# Altium integrated library Diode - Rectifier.IntLib: 777 symbols (part 3 of 12)
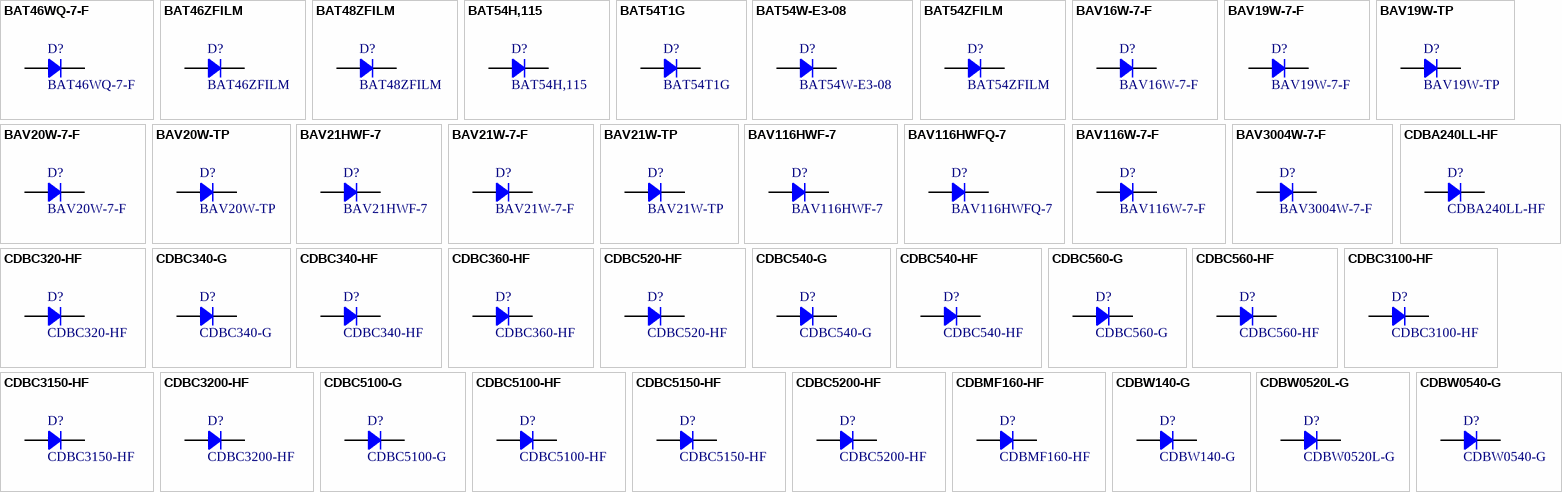
[diagram p21: symbols BAT46WQ-7-F to CDBW0540-G]

## BAV20W-TP
designator D?
DIODE GEN PURP 150V 200MA SOD123; Manufacturer: Micro Commercial Co; Type: Standard; Current Reverse Leakage @ Vr: 100nA @ 150V; Reverse Recovery Time (trr): 50ns; Voltage Forward (Vf): 1.25V @ 200mA; Part Number: BAV20W-TP; PartId: 29417; Supplier 1: Digi-Key; Supplier Part Number 1: BAV20WTPMSCT-ND; ComponentLink1Description: Datasheet; ComponentLink1URL: http://www.mccsemi.com/up_pdf/BAV19W-BAV21W(SOD-123).pdf; ComponentLink2Description: Digi-Key Listing; ComponentLink2URL: https://www.digikey.com/product-detail/en/micro-commercial-co/BAV20W-TP/BAV20WTPMSCT-ND/717350; Junction Operating Temperature: -55C ~ 150C; Price: 0.21; Device Package: SOD-123; Voltage DC Reverse (Vr): 150V; Current Rectified: 200mA
footprint SOD-123
pins: 1, 2

## BAV21HWF-7
designator D?
DIODE SW 200V 200MA SOD123F; Manufacturer: Diodes Incorporated; Type: Standard; Current Reverse Leakage @ Vr: 100nA @ 200V; Reverse Recovery Time (trr): 50ns; Voltage Forward (Vf): 1.25V @ 200mA; Part Number: BAV21HWF-7; PartId: 29256; Supplier 1: Digi-Key; Supplier Part Number 1: BAV21HWF-7DICT-ND; ComponentLink1Description: Datasheet; ComponentLink1URL: http://www.diodes.com/_files/datasheets/BAV21HWF.pdf; ComponentLink2Description: Digi-Key Listing; ComponentLink2URL: https://www.digikey.com/product-detail/en/diodes-incorporated/BAV21HWF-7/BAV21HWF-7DICT-ND/5451809; Junction Operating Temperature: -65C ~ 150C; Price: 0.35; Device Package: SOD-123F; Voltage DC Reverse (Vr): 200V; Current Rectified: 200mA
footprint SOD123F
pins: 1, 2

## BAV21W-7-F
designator D?
DIODE GEN PURP 200V 200MA SOD123; Manufacturer: Diodes Incorporated; Type: Standard; Current Reverse Leakage @ Vr: 100nA @ 200V; Reverse Recovery Time (trr): 50ns; Voltage Forward (Vf): 1.25V @ 200mA; Part Number: BAV21W-7-F; PartId: 14590; Supplier 1: Digi-Key; Supplier Part Number 1: BAV21W-FDITR-ND; ComponentLink1Description: Datasheet; ComponentLink1URL: http://www.diodes.com/_files/datasheets/ds12024.pdf; ComponentLink2Description: Digi-Key Listing; ComponentLink2URL: https://www.digikey.com/product-detail/en/diodes-incorporated/BAV21W-7-F/BAV21W-FDITR-ND/717710; Junction Operating Temperature: -65C ~ 150C; Price: 0.0318; Device Package: SOD-123; Voltage DC Reverse (Vr): 200V; Current Rectified: 200mA
footprint SOD-123
pins: 1, 2

## BAV21W-TP
designator D?
DIODE GEN PURP 200V 200MA SOD123; Manufacturer: Micro Commercial Co; Type: Standard; Current Reverse Leakage @ Vr: 100nA @ 200V; Reverse Recovery Time (trr): 50ns; Voltage Forward (Vf): 1.25V @ 200mA; Part Number: BAV21W-TP; PartId: 29358; Supplier 1: Digi-Key; Supplier Part Number 1: BAV21WTPMSCT-ND; ComponentLink1Description: Datasheet; ComponentLink1URL: http://www.mccsemi.com/up_pdf/BAV19W-BAV21W(SOD-123).pdf; ComponentLink2Description: Digi-Key Listing; ComponentLink2URL: https://www.digikey.com/product-detail/en/micro-commercial-co/BAV21W-TP/BAV21WTPMSCT-ND/717352; Junction Operating Temperature: -55C ~ 150C; Price: 0.21; Device Package: SOD-123; Voltage DC Reverse (Vr): 200V; Current Rectified: 200mA
footprint SOD-123
pins: 1, 2

## BAV116HWF-7
designator D?
DIODE SW 130V 215MA SOD123F; Manufacturer: Diodes Incorporated; Type: Standard; Current Reverse Leakage @ Vr: 5nA @ 75V; Reverse Recovery Time (trr): 3us; Current Rectified: 215mA (DC); Voltage Forward (Vf): 1.25V @ 150mA; Part Number: BAV116HWF-7; PartId: 29255; Supplier 1: Digi-Key; Supplier Part Number 1: BAV116HWF-7DICT-ND; ComponentLink1Description: Datasheet; ComponentLink1URL: http://www.diodes.com/_files/datasheets/BAV116HWF.pdf; ComponentLink2Description: Digi-Key Listing; ComponentLink2URL: https://www.digikey.com/product-detail/en/diodes-incorporated/BAV116HWF-7/BAV116HWF-7DICT-ND/5451808; Junction Operating Temperature: -65C ~ 150C; Price: 0.34; Device Package: SOD-123F; Voltage DC Reverse (Vr): 130V
footprint SOD123F
pins: 1, 2

## BAV116HWFQ-7
designator D?
DIODE SW 85V 215MA SOD123F; Manufacturer: Diodes Incorporated; Type: Standard; Current Reverse Leakage @ Vr: 5nA @ 75V; Reverse Recovery Time (trr): 3us; Current Rectified: 215mA (DC); Voltage Forward (Vf): 1.25V @ 150mA; Part Number: BAV116HWFQ-7; PartId: 29279; Supplier 1: Digi-Key; Supplier Part Number 1: BAV116HWFQ-7DICT-ND; ComponentLink1Description: Datasheet; ComponentLink1URL: http://www.diodes.com/_files/datasheets/BAV116HWFQ.pdf; ComponentLink2Description: Digi-Key Listing; ComponentLink2URL: https://www.digikey.com/product-detail/en/diodes-incorporated/BAV116HWFQ-7/BAV116HWFQ-7DICT-ND/6012768; Junction Operating Temperature: -65C ~ 150C; Price: 0.42; Device Package: SOD-123F; Voltage DC Reverse (Vr): 85V
footprint SOD123F
pins: 1, 2

## BAV116W-7-F
designator D?
DIODE GEN PURP 130V 215MA SOD123; Manufacturer: Diodes Incorporated; Type: Standard; Current Reverse Leakage @ Vr: 5nA @ 75V; Reverse Recovery Time (trr): 3us; Current Rectified: 215mA (DC); Voltage Forward (Vf): 1.25V @ 150mA; Part Number: BAV116W-7-F; PartId: 14592; Supplier 1: Digi-Key; Supplier Part Number 1: BAV116W-FDITR-ND; ComponentLink1Description: Datasheet; ComponentLink1URL: http://www.diodes.com/_files/datasheets/ds30291.pdf; ComponentLink2Description: Digi-Key Listing; ComponentLink2URL: https://www.digikey.com/product-detail/en/diodes-incorporated/BAV116W-7-F/BAV116W-FDITR-ND/717705; Junction Operating Temperature: -65C ~ 150C; Price: 0.046; Device Package: SOD-123; Voltage DC Reverse (Vr): 130V
footprint SOD-123
pins: 1, 2

## BAV3004W-7-F
designator D?
DIODE GEN PURP 300V 225MA SOD123; Manufacturer: Diodes Incorporated; Type: Standard; Current Reverse Leakage @ Vr: 100nA @ 240V; Reverse Recovery Time (trr): 50ns; Current Rectified: 225mA (DC); Voltage Forward (Vf): 1.25V @ 200mA; Part Number: BAV3004W-7-F; PartId: 14598; Supplier 1: Digi-Key; Supplier Part Number 1: BAV3004W-FDITR-ND; ComponentLink1Description: Datasheet; ComponentLink1URL: http://www.diodes.com/_files/datasheets/ds30371.pdf; ComponentLink2Description: Digi-Key Listing; ComponentLink2URL: https://www.digikey.com/product-detail/en/diodes-incorporated/BAV3004W-7-F/BAV3004W-FDITR-ND/815036; Junction Operating Temperature: -65C ~ 150C; Price: 0.06; Device Package: SOD-123; Voltage DC Reverse (Vr): 300V
footprint SOD-123
pins: 1, 2

## CDBA240LL-HF
designator D?
DIODE SCHOTTKY 40V 2A DO214AC; Manufacturer: Comchip Technology; Type: Surface Mount; Current Reverse Leakage @ Vr: 1mA @ 40V; Current Rectified: 2A (DC); Voltage Forward (Vf): 350mV @ 2A; Part Number: CDBA240LL-HF; PartId: 7127; Supplier 1: Digi-Key; Supplier Part Number 1: 641-1698-2-ND; ComponentLink1Description: Datasheet; ComponentLink1URL: http://www.comchiptech.com/cms/UserFiles/CDBA240LL-HF%20RevC514247.pdf; ComponentLink2Description: Digi-Key Listing; ComponentLink2URL: http://www.digikey.ca/product-detail/en/CDBA240LL-HF/641-1698-2-ND/3308134; Junction Operating Temperature: -55C ~ 100C; Price: 0.2225; Device Package: DO-214AC, SMA; Reverse Recovery Time (trr): -; Voltage DC Reverse (Vr): 40V
footprint DO214AC SMA
pins: 1, 2

## CDBC320-HF
designator D?
DIODE SCHOTTKY 20V 3A DO214AB; Manufacturer: Comchip Technology; Current Reverse Leakage @ Vr: 500uA @ 20V; Voltage Forward (Vf): 450mV @ 3A; Part Number: CDBC320-HF; PartId: 27841; Supplier 1: Digi-Key; Supplier Part Number 1: 641-1726-1-ND; ComponentLink1Description: Datasheet; ComponentLink1URL: http://www.comchiptech.com/cms/UserFiles/CDBC320-HF%20Thru665433.%20CDBC3100-HF%20RevA.PDF; ComponentLink2Description: Digi-Key Listing; ComponentLink2URL: https://www.digikey.com/product-detail/en/comchip-technology/CDBC320-HF/641-1726-1-ND/5226109; Junction Operating Temperature: -50C ~ 150C; Price: 0.55; Type: Schottky; Device Package: DO-214AB, SMC; Voltage DC Reverse (Vr): 20V; Current Rectified: 3A
footprint ST DO214AB SMC
pins: 1, 2

## CDBC340-G
designator D?
DIODE SCHOTTKY 40V 3A DO214AB; Manufacturer: Comchip Technology; Current Reverse Leakage @ Vr: 500uA @ 40V; Voltage Forward (Vf): 500mV @ 3A; Part Number: CDBC340-G; PartId: 27723; Supplier 1: Digi-Key; Supplier Part Number 1: 641-1121-1-ND; ComponentLink1Description: Datasheet; ComponentLink1URL: http://www.comchiptech.com/cms/UserFiles/CDBC320-G%20Thru936871.%20CDBC3100-G%20RevB.pdf; ComponentLink2Description: Digi-Key Listing; ComponentLink2URL: https://www.digikey.com/product-detail/en/comchip-technology/CDBC340-G/641-1121-1-ND/1559082; Junction Operating Temperature: 125C (Max); Price: 0.46; Type: Schottky; Device Package: DO-214AB, SMC; Voltage DC Reverse (Vr): 40V; Current Rectified: 3A
footprint ST DO214AB SMC
pins: 1, 2

## CDBC340-HF
designator D?
DIODE SCHOTTKY 40V 3A DO214AB; Manufacturer: Comchip Technology; Current Reverse Leakage @ Vr: 500uA @ 40V; Voltage Forward (Vf): 500mV @ 3A; Part Number: CDBC340-HF; PartId: 27843; Supplier 1: Digi-Key; Supplier Part Number 1: 641-1727-1-ND; ComponentLink1Description: Datasheet; ComponentLink1URL: http://www.comchiptech.com/cms/UserFiles/CDBC320-HF%20Thru665433.%20CDBC3100-HF%20RevA.PDF; ComponentLink2Description: Digi-Key Listing; ComponentLink2URL: https://www.digikey.com/product-detail/en/comchip-technology/CDBC340-HF/641-1727-1-ND/5226110; Junction Operating Temperature: -50C ~ 150C; Price: 0.56; Type: Schottky; Device Package: DO-214AB, SMC; Voltage DC Reverse (Vr): 40V; Current Rectified: 3A
footprint ST DO214AB SMC
pins: 1, 2

## CDBC360-HF
designator D?
DIODE SCHOTTKY 60V 3A DO214AB; Manufacturer: Comchip Technology; Current Reverse Leakage @ Vr: 500uA @ 60V; Voltage Forward (Vf): 700mV @ 3A; Part Number: CDBC360-HF; PartId: 27798; Supplier 1: Digi-Key; Supplier Part Number 1: 641-1728-1-ND; ComponentLink1Description: Datasheet; ComponentLink1URL: http://www.comchiptech.com/cms/UserFiles/CDBC320-HF%20Thru665433.%20CDBC3100-HF%20RevA.PDF; ComponentLink2Description: Digi-Key Listing; ComponentLink2URL: https://www.digikey.com/product-detail/en/comchip-technology/CDBC360-HF/641-1728-1-ND/5226111; Junction Operating Temperature: -50C ~ 150C; Price: 0.56; Type: Schottky; Device Package: DO-214AB, SMC; Voltage DC Reverse (Vr): 60V; Current Rectified: 3A
footprint ST DO214AB SMC
pins: 1, 2

## CDBC520-HF
designator D?
DIODE SCHOTTKY 20V 5A DO214AB; Manufacturer: Comchip Technology; Current Reverse Leakage @ Vr: 500uA @ 20V; Voltage Forward (Vf): 500mV @ 5A; Part Number: CDBC520-HF; PartId: 27844; Supplier 1: Digi-Key; Supplier Part Number 1: 641-1732-1-ND; ComponentLink1Description: Datasheet; ComponentLink1URL: http://www.comchiptech.com/cms/UserFiles/CDBC520-HF%20Thru195419.%20CDBC5100-HF%20RevB.pdf; ComponentLink2Description: Digi-Key Listing; ComponentLink2URL: https://www.digikey.com/product-detail/en/comchip-technology/CDBC520-HF/641-1732-1-ND/5226115; Junction Operating Temperature: -50C ~ 175C; Price: 0.56; Type: Schottky; Device Package: DO-214AB, SMC; Voltage DC Reverse (Vr): 20V; Current Rectified: 5A
footprint ST DO214AB SMC
pins: 1, 2

## CDBC540-G
designator D?
DIODE SCHOTTKY 40V 5A DO214AB; Manufacturer: Comchip Technology; Current Reverse Leakage @ Vr: 500uA @ 40V; Voltage Forward (Vf): 550mV @ 5A; Part Number: CDBC540-G; PartId: 27690; Supplier 1: Digi-Key; Supplier Part Number 1: 641-1126-1-ND; ComponentLink1Description: Datasheet; ComponentLink1URL: http://www.comchiptech.com/cms/UserFiles/CDBC520-G%20Thru936981.%20CDBC5100-G%20RevC.pdf; ComponentLink2Description: Digi-Key Listing; ComponentLink2URL: https://www.digikey.com/product-detail/en/comchip-technology/CDBC540-G/641-1126-1-ND/1559087; Junction Operating Temperature: -40C ~ 125C; Price: 0.66; Type: Schottky; Device Package: DO-214AB, SMC; Voltage DC Reverse (Vr): 40V; Current Rectified: 5A
footprint ST DO214AB SMC
pins: 1, 2

## CDBC540-HF
designator D?
DIODE SCHOTTKY 40V 5A DO214AB; Manufacturer: Comchip Technology; Current Reverse Leakage @ Vr: 500uA @ 40V; Voltage Forward (Vf): 550mV @ 5A; Part Number: CDBC540-HF; PartId: 27751; Supplier 1: Digi-Key; Supplier Part Number 1: 641-1733-1-ND; ComponentLink1Description: Datasheet; ComponentLink1URL: http://www.comchiptech.com/cms/UserFiles/CDBC520-HF%20Thru195419.%20CDBC5100-HF%20RevB.pdf; ComponentLink2Description: Digi-Key Listing; ComponentLink2URL: https://www.digikey.com/product-detail/en/comchip-technology/CDBC540-HF/641-1733-1-ND/5226116; Junction Operating Temperature: -50C ~ 150C; Price: 0.74; Type: Schottky; Device Package: DO-214AB, SMC; Voltage DC Reverse (Vr): 40V; Current Rectified: 5A
footprint ST DO214AB SMC
pins: 1, 2

## CDBC560-G
designator D?
DIODE SCHOTTKY 60V 5A DO214AB; Manufacturer: Comchip Technology; Current Reverse Leakage @ Vr: 500uA @ 60V; Voltage Forward (Vf): 750mV @ 5A; Part Number: CDBC560-G; PartId: 27697; Supplier 1: Digi-Key; Supplier Part Number 1: 641-1127-1-ND; ComponentLink1Description: Datasheet; ComponentLink1URL: http://www.comchiptech.com/cms/UserFiles/CDBC520-G%20Thru936981.%20CDBC5100-G%20RevC.pdf; ComponentLink2Description: Digi-Key Listing; ComponentLink2URL: https://www.digikey.com/product-detail/en/comchip-technology/CDBC560-G/641-1127-1-ND/1559088; Junction Operating Temperature: -40C ~ 125C; Price: 0.74; Type: Schottky; Device Package: DO-214AB, SMC; Voltage DC Reverse (Vr): 60V; Current Rectified: 5A
footprint ST DO214AB SMC
pins: 1, 2

## CDBC560-HF
designator D?
DIODE SCHOTTKY 60V 5A DO214AB; Manufacturer: Comchip Technology; Current Reverse Leakage @ Vr: 500uA @ 60V; Voltage Forward (Vf): 750mV @ 5A; Part Number: CDBC560-HF; PartId: 27753; Supplier 1: Digi-Key; Supplier Part Number 1: 641-1734-1-ND; ComponentLink1Description: Datasheet; ComponentLink1URL: http://www.comchiptech.com/cms/UserFiles/CDBC520-HF%20Thru195419.%20CDBC5100-HF%20RevB.pdf; ComponentLink2Description: Digi-Key Listing; ComponentLink2URL: https://www.digikey.com/product-detail/en/comchip-technology/CDBC560-HF/641-1734-1-ND/5226117; Junction Operating Temperature: -50C ~ 150C; Price: 0.76; Type: Schottky; Device Package: DO-214AB, SMC; Voltage DC Reverse (Vr): 60V; Current Rectified: 5A
footprint ST DO214AB SMC
pins: 1, 2

## CDBC3100-HF
designator D?
DIODE SCHOTTKY 100V 3A DO214AB; Manufacturer: Comchip Technology; Current Reverse Leakage @ Vr: 500uA @ 100V; Voltage Forward (Vf): 810mV @ 3A; Part Number: CDBC3100-HF; PartId: 27832; Supplier 1: Digi-Key; Supplier Part Number 1: 641-1672-1-ND; ComponentLink1Description: Datasheet; ComponentLink1URL: http://www.comchiptech.com/cms/UserFiles/CDBC320-HF%20Thru665433.%20CDBC3100-HF%20RevA.PDF; ComponentLink2Description: Digi-Key Listing; ComponentLink2URL: https://www.digikey.com/product-detail/en/comchip-technology/CDBC3100-HF/641-1672-1-ND/5147309; Junction Operating Temperature: -50C ~ 150C; Price: 0.51; Type: Schottky; Device Package: DO-214AB, SMC; Voltage DC Reverse (Vr): 100V; Current Rectified: 3A
footprint ST DO214AB SMC
pins: 1, 2

## CDBC3150-HF
designator D?
DIODE SCHOTTKY 150V 3A DO214AB; Manufacturer: Comchip Technology; Current Reverse Leakage @ Vr: 500uA @ 150V; Voltage Forward (Vf): 870mV @ 3A; Part Number: CDBC3150-HF; PartId: 27839; Supplier 1: Digi-Key; Supplier Part Number 1: 641-1724-1-ND; ComponentLink1Description: Datasheet; ComponentLink1URL: http://www.comchiptech.com/cms/UserFiles/CDBC3150-HF%20Thru665657.%20CDBC3200-HF%20RevA.pdf; ComponentLink2Description: Digi-Key Listing; ComponentLink2URL: https://www.digikey.com/product-detail/en/comchip-technology/CDBC3150-HF/641-1724-1-ND/5226107; Junction Operating Temperature: -50C ~ 175C; Price: 0.54; Type: Schottky; Device Package: DO-214AB, SMC; Voltage DC Reverse (Vr): 150V; Current Rectified: 3A
footprint ST DO214AB SMC
pins: 1, 2

## CDBC3200-HF
designator D?
DIODE SCHOTTKY 200V 3A DO214AB; Manufacturer: Comchip Technology; Current Reverse Leakage @ Vr: 500uA @ 200V; Voltage Forward (Vf): 900mV @ 3A; Part Number: CDBC3200-HF; PartId: 27842; Supplier 1: Digi-Key; Supplier Part Number 1: 641-1725-1-ND; ComponentLink1Description: Datasheet; ComponentLink1URL: http://www.comchiptech.com/cms/UserFiles/CDBC3150-HF%20Thru665657.%20CDBC3200-HF%20RevA.pdf; ComponentLink2Description: Digi-Key Listing; ComponentLink2URL: https://www.digikey.com/product-detail/en/comchip-technology/CDBC3200-HF/641-1725-1-ND/5226108; Junction Operating Temperature: -50C ~ 175C; Price: 0.56; Type: Schottky; Device Package: DO-214AB, SMC; Voltage DC Reverse (Vr): 200V; Current Rectified: 3A
footprint ST DO214AB SMC
pins: 1, 2

## CDBC5100-G
designator D?
DIODE SCHOTTKY 100V 5A DO214AB; Manufacturer: Comchip Technology; Current Reverse Leakage @ Vr: 500uA @ 100V; Voltage Forward (Vf): 850mV @ 5A; Part Number: CDBC5100-G; PartId: 27698; Supplier 1: Digi-Key; Supplier Part Number 1: 641-1124-1-ND; ComponentLink1Description: Datasheet; ComponentLink1URL: http://www.comchiptech.com/cms/UserFiles/CDBC520-G%20Thru936981.%20CDBC5100-G%20RevC.pdf; ComponentLink2Description: Digi-Key Listing; ComponentLink2URL: https://www.digikey.com/product-detail/en/comchip-technology/CDBC5100-G/641-1124-1-ND/1559085; Junction Operating Temperature: 125C (Max); Price: 0.74; Type: Schottky; Device Package: DO-214AB, SMC; Voltage DC Reverse (Vr): 100V; Current Rectified: 5A
footprint ST DO214AB SMC
pins: 1, 2

## CDBC5100-HF
designator D?
DIODE SCHOTTKY 100V 5A DO214AB; Manufacturer: Comchip Technology; Current Reverse Leakage @ Vr: 500uA @ 100V; Voltage Forward (Vf): 810mV @ 5A; Part Number: CDBC5100-HF; PartId: 27699; Supplier 1: Digi-Key; Supplier Part Number 1: 641-1729-1-ND; ComponentLink1Description: Datasheet; ComponentLink1URL: http://www.comchiptech.com/cms/UserFiles/CDBC520-HF%20Thru195419.%20CDBC5100-HF%20RevB.pdf; ComponentLink2Description: Digi-Key Listing; ComponentLink2URL: https://www.digikey.com/product-detail/en/comchip-technology/CDBC5100-HF/641-1729-1-ND/5226112; Junction Operating Temperature: -50C ~ 150C; Price: 0.74; Type: Schottky; Device Package: DO-214AB, SMC; Voltage DC Reverse (Vr): 100V; Current Rectified: 5A
footprint ST DO214AB SMC
pins: 1, 2

## CDBC5150-HF
designator D?
DIODE SCHOTTKY 150V 5A DO214AB; Manufacturer: Comchip Technology; Current Reverse Leakage @ Vr: 500uA @ 150V; Voltage Forward (Vf): 870mV @ 5A; Part Number: CDBC5150-HF; PartId: 27858; Supplier 1: Digi-Key; Supplier Part Number 1: 641-1730-1-ND; ComponentLink1Description: Datasheet; ComponentLink1URL: http://www.comchiptech.com/cms/UserFiles/CDBC5150-HF%20Thru913245.%20CDBC5200-HF%20RevB.pdf; ComponentLink2Description: Digi-Key Listing; ComponentLink2URL: https://www.digikey.com/product-detail/en/comchip-technology/CDBC5150-HF/641-1730-1-ND/5226113; Junction Operating Temperature: -50C ~ 175C; Price: 0.68; Type: Schottky; Device Package: DO-214AB, SMC; Voltage DC Reverse (Vr): 150V; Current Rectified: 5A
footprint ST DO214AB SMC
pins: 1, 2

## CDBC5200-HF
designator D?
DIODE SCHOTTKY 200V 5A DO214AB; Manufacturer: Comchip Technology; Current Reverse Leakage @ Vr: 500uA @ 150V; Voltage Forward (Vf): 900mV @ 5A; Part Number: CDBC5200-HF; PartId: 27849; Supplier 1: Digi-Key; Supplier Part Number 1: 641-1731-1-ND; ComponentLink1Description: Datasheet; ComponentLink1URL: http://www.comchiptech.com/cms/UserFiles/CDBC5150-HF%20Thru913245.%20CDBC5200-HF%20RevB.pdf; ComponentLink2Description: Digi-Key Listing; ComponentLink2URL: https://www.digikey.com/product-detail/en/comchip-technology/CDBC5200-HF/641-1731-1-ND/5226114; Junction Operating Temperature: -50C ~ 175C; Price: 0.62; Type: Schottky; Device Package: DO-214AB, SMC; Voltage DC Reverse (Vr): 200V; Current Rectified: 5A
footprint ST DO214AB SMC
pins: 1, 2

## CDBMF160-HF
designator D?
DIODE SCHOTTKY 60V 1A SOD123FL; Manufacturer: Comchip Technology; Current Reverse Leakage @ Vr: 100uA @ 60V; Voltage Forward (Vf): 700mV @ 1A; Part Number: CDBMF160-HF; PartId: 29325; Supplier 1: Digi-Key; Supplier Part Number 1: 641-1785-1-ND; ComponentLink1Description: Datasheet; ComponentLink1URL: http://www.comchiptech.com/cms/UserFiles/CDBMF160-HF%20RevA639050.pdf; ComponentLink2Description: Digi-Key Listing; ComponentLink2URL: https://www.digikey.com/product-detail/en/comchip-technology/CDBMF160-HF/641-1785-1-ND/6138949; Junction Operating Temperature: -40C ~ 125C; Price: 0.4; Type: Schottky; Device Package: SOD-123F; Voltage DC Reverse (Vr): 60V; Current Rectified: 1A
footprint SOD123F
pins: 1, 2

## CDBW140-G
designator D?
DIODE SCHOTTKY 40V 1A SOD123; Manufacturer: Comchip Technology; Current Reverse Leakage @ Vr: 1mA @ 40V; Voltage Forward (Vf): 600mV @ 1A; Part Number: CDBW140-G; PartId: 29380; Supplier 1: Digi-Key; Supplier Part Number 1: 641-1458-1-ND; ComponentLink1Description: Datasheet; ComponentLink1URL: http://www.comchiptech.com/cms/UserFiles/CDBW120-G%20Thru.%20CDBW140-G%20RevE.pdf; ComponentLink2Description: Digi-Key Listing; ComponentLink2URL: https://www.digikey.com/product-detail/en/comchip-technology/CDBW140-G/641-1458-1-ND/3511543; Junction Operating Temperature: 125C (Max); Price: 0.39; Type: Schottky; Device Package: SOD-123; Voltage DC Reverse (Vr): 40V; Current Rectified: 1A
footprint SOD-123
pins: 1, 2

## CDBW0520L-G
designator D?
DIODE SCHOTTKY 20V 500MA SOD123; Manufacturer: Comchip Technology; Current Reverse Leakage @ Vr: 250uA @ 20V; Voltage Forward (Vf): 385mV @ 500mA; Part Number: CDBW0520L-G; PartId: 29431; Supplier 1: Digi-Key; Supplier Part Number 1: 641-1326-1-ND; ComponentLink1Description: Datasheet; ComponentLink1URL: http://www.comchiptech.com/cms/UserFiles/CDBW0520L-G%20Thru541455.%20CDBW0540-G%20RevB.pdf; ComponentLink2Description: Digi-Key Listing; ComponentLink2URL: https://www.digikey.com/product-detail/en/comchip-technology/CDBW0520L-G/641-1326-1-ND/1979691; Junction Operating Temperature: 125C (Max); Price: 0.44; Type: Schottky; Device Package: SOD-123; Voltage DC Reverse (Vr): 20V; Current Rectified: 500mA
footprint SOD-123
pins: 1, 2

## CDBW0540-G
designator D?
DIODE SCHOTTKY 40V 500MA SOD123; Manufacturer: Comchip Technology; Current Reverse Leakage @ Vr: 20uA @ 40V; Voltage Forward (Vf): 510mV @ 500mA; Part Number: CDBW0540-G; PartId: 29430; Supplier 1: Digi-Key; Supplier Part Number 1: 641-1327-1-ND; ComponentLink1Description: Datasheet; ComponentLink1URL: http://www.comchiptech.com/cms/UserFiles/CDBW0520L-G%20Thru541455.%20CDBW0540-G%20RevB.pdf; ComponentLink2Description: Digi-Key Listing; ComponentLink2URL: https://www.digikey.com/product-detail/en/comchip-technology/CDBW0540-G/641-1327-1-ND/1979692; Junction Operating Temperature: 125C (Max); Price: 0.44; Type: Schottky; Device Package: SOD-123; Voltage DC Reverse (Vr): 40V; Current Rectified: 500mA
footprint SOD-123
pins: 1, 2

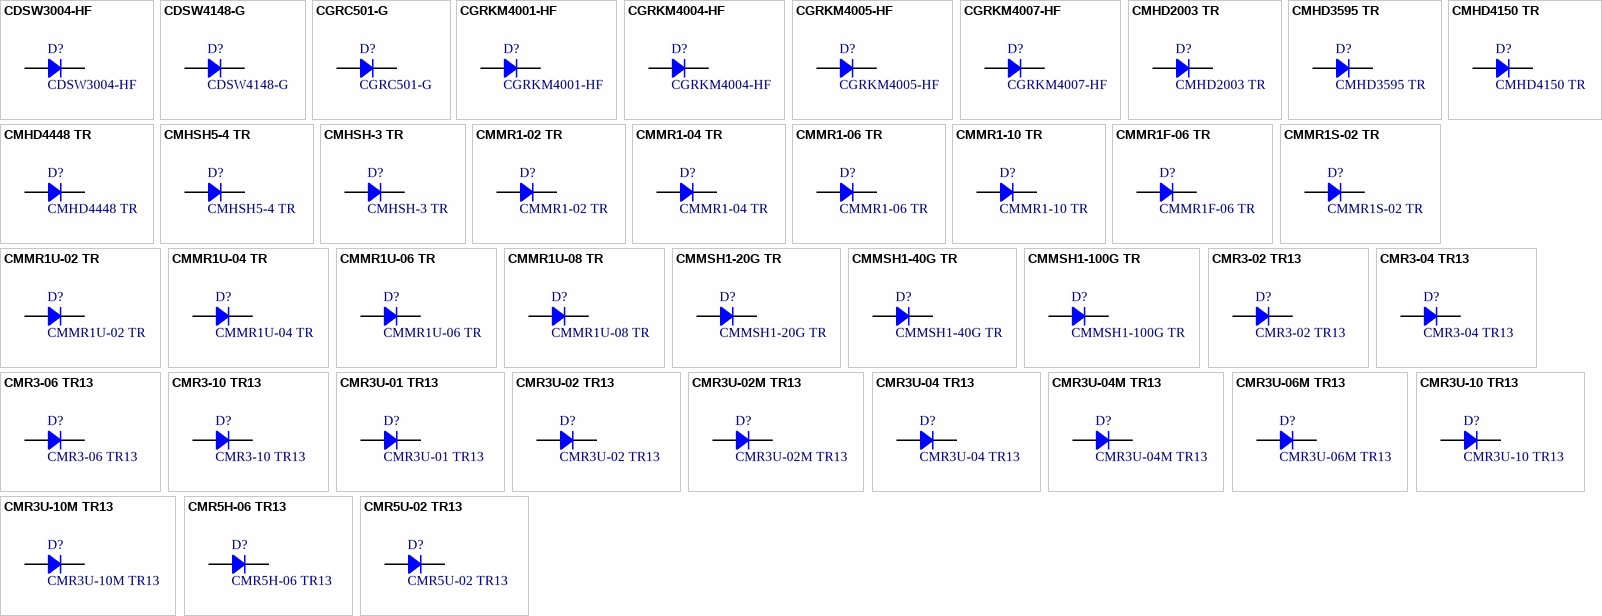
[diagram p4: symbols CDSW3004-HF to CMR5U-02 TR13]

## CDSW3004-HF
designator D?
DIODE GEN PURP 300V 225MA SOD123; Manufacturer: Comchip Technology; Type: Standard; Current Reverse Leakage @ Vr: 100nA @ 240V; Reverse Recovery Time (trr): 50ns; Voltage Forward (Vf): 1.25V @ 200mA; Part Number: CDSW3004-HF; PartId: 29411; Supplier 1: Digi-Key; Supplier Part Number 1: 641-1788-1-ND; ComponentLink1Description: Datasheet; ComponentLink1URL: http://www.comchiptech.com/cms/UserFiles/CDSW3004-HF%20RevA679419.pdf; ComponentLink2Description: Digi-Key Listing; ComponentLink2URL: https://www.digikey.com/product-detail/en/comchip-technology/CDSW3004-HF/641-1788-1-ND/6138952; Junction Operating Temperature: -65C ~ 150C; Price: 0.5; Device Package: SOD-123; Voltage DC Reverse (Vr): 300V; Current Rectified: 225mA
footprint SOD-123
pins: 1, 2

## CDSW4148-G
designator D?
DIODE GEN PURP 75V 150MA SOD123; Manufacturer: Comchip Technology; Type: Standard; Current Reverse Leakage @ Vr: 1uA @ 75V; Reverse Recovery Time (trr): 4ns; Voltage Forward (Vf): 1.25V @ 150mA; Part Number: CDSW4148-G; PartId: 29399; Supplier 1: Digi-Key; Supplier Part Number 1: 641-1459-1-ND; ComponentLink1Description: Datasheet; ComponentLink1URL: http://www.comchiptech.com/cms/UserFiles/CDSW4148-G%20RevG570196.pdf; ComponentLink2Description: Digi-Key Listing; ComponentLink2URL: https://www.digikey.com/product-detail/en/comchip-technology/CDSW4148-G/641-1459-1-ND/3511544; Junction Operating Temperature: -65C ~ 150C; Price: 0.2; Device Package: SOD-123; Voltage DC Reverse (Vr): 75V; Current Rectified: 150mA
footprint SOD-123
pins: 1, 2

## CGRC501-G
designator D?
DIODE GEN PURP 50V 5A DO214AB; Manufacturer: Comchip Technology; Type: Standard; Current Reverse Leakage @ Vr: 10uA @ 50V; Voltage Forward (Vf): 1.15V @ 5A; Part Number: CGRC501-G; PartId: 27766; Supplier 1: Digi-Key; Supplier Part Number 1: 641-1174-1-ND; ComponentLink1Description: Datasheet; ComponentLink1URL: http://www.comchiptech.com/cms/UserFiles/CGRC501-G%20Thru.%20CGRC507-G%20RevA.pdf; ComponentLink2Description: Digi-Key Listing; ComponentLink2URL: https://www.digikey.com/product-detail/en/comchip-technology/CGRC501-G/641-1174-1-ND/1559135; Junction Operating Temperature: 150C (Max); Price: 0.46; Device Package: DO-214AB, SMC; Voltage DC Reverse (Vr): 50V; Current Rectified: 5A
footprint ST DO214AB SMC
pins: 1, 2

## CGRKM4001-HF
designator D?
DIODE GEN PURP 50V 1A SOD123F; Manufacturer: Comchip Technology; Type: Standard; Current Reverse Leakage @ Vr: 5uA @ 50V; Voltage Forward (Vf): 1.1V @ 1A; Part Number: CGRKM4001-HF; PartId: 29184; Supplier 1: Digi-Key; Supplier Part Number 1: 641-1511-1-ND; ComponentLink1Description: Datasheet; ComponentLink1URL: http://www.comchiptech.com/cms/UserFiles/CGRKM4001-HF%20Thru.%20CGRKM4007-HF%20RevG.pdf; ComponentLink2Description: Digi-Key Listing; ComponentLink2URL: https://www.digikey.com/product-detail/en/comchip-technology/CGRKM4001-HF/641-1511-1-ND/4772513; Junction Operating Temperature: -55C ~ 150C; Price: 0.36; Device Package: SOD-123F; Voltage DC Reverse (Vr): 50V; Current Rectified: 1A
footprint SOD123F
pins: 1, 2

## CGRKM4004-HF
designator D?
DIODE GEN PURP 400V 1A SOD123F; Manufacturer: Comchip Technology; Type: Standard; Voltage Forward (Vf): 1.1V @ 1A; Part Number: CGRKM4004-HF; PartId: 29227; Supplier 1: Digi-Key; Supplier Part Number 1: 641-1512-1-ND; ComponentLink1Description: Datasheet; ComponentLink1URL: http://www.comchiptech.com/cms/UserFiles/CGRKM4001-HF%20Thru.%20CGRKM4007-HF%20RevG.pdf; ComponentLink2Description: Digi-Key Listing; ComponentLink2URL: https://www.digikey.com/product-detail/en/comchip-technology/CGRKM4004-HF/641-1512-1-ND/4772516; Junction Operating Temperature: -55C ~ 150C; Price: 0.4; Device Package: SOD-123F; Voltage DC Reverse (Vr): 400V; Current Rectified: 1A
footprint SOD123F
pins: 1, 2

## CGRKM4005-HF
designator D?
DIODE GEN PURP 600V 1A SOD123F; Manufacturer: Comchip Technology; Type: Standard; Current Reverse Leakage @ Vr: 5uA @ 600V; Voltage Forward (Vf): 1V @ 1A; Part Number: CGRKM4005-HF; PartId: 29226; Supplier 1: Digi-Key; Supplier Part Number 1: 641-1513-1-ND; ComponentLink1Description: Datasheet; ComponentLink1URL: http://www.comchiptech.com/cms/UserFiles/CGRKM4001-HF%20Thru.%20CGRKM4007-HF%20RevG.pdf; ComponentLink2Description: Digi-Key Listing; ComponentLink2URL: https://www.digikey.com/product-detail/en/comchip-technology/CGRKM4005-HF/641-1513-1-ND/4772519; Junction Operating Temperature: -55C ~ 150C; Price: 0.36; Device Package: SOD-123F; Voltage DC Reverse (Vr): 600V; Current Rectified: 1A
footprint SOD123F
pins: 1, 2

## CGRKM4007-HF
designator D?
DIODE GEN PURP 1KV 1A SOD123F; Manufacturer: Comchip Technology; Type: Standard; Current Reverse Leakage @ Vr: 5uA @ 1000V; Voltage DC Reverse (Vr): 1000V (1kV); Voltage Forward (Vf): 1.1V @ 1A; Part Number: CGRKM4007-HF; PartId: 29183; Supplier 1: Digi-Key; Supplier Part Number 1: 641-1514-1-ND; ComponentLink1Description: Datasheet; ComponentLink1URL: http://www.comchiptech.com/cms/UserFiles/CGRKM4001-HF%20Thru.%20CGRKM4007-HF%20RevG.pdf; ComponentLink2Description: Digi-Key Listing; ComponentLink2URL: https://www.digikey.com/product-detail/en/comchip-technology/CGRKM4007-HF/641-1514-1-ND/4772522; Junction Operating Temperature: -55C ~ 150C; Price: 0.36; Device Package: SOD-123F; Current Rectified: 1A
footprint SOD123F
pins: 1, 2

## CMHD2003 TR
designator D?
DIODE GEN PURP 250V 200MA SOD123; Manufacturer: Central Semiconductor Corp; Type: Standard; Current Reverse Leakage @ Vr: 100nA @ 200V; Reverse Recovery Time (trr): 50ns; Voltage Forward (Vf): 1V @ 100mA; Part Number: CMHD2003 TR; PartId: 29414; Supplier 1: Digi-Key; Supplier Part Number 1: CMHD2003 CT-ND; ComponentLink1Description: Datasheet; ComponentLink1URL: https://www.centralsemi.com/get_document.php?cmp=1&mergetype=pd&mergepath=pd&pdf_id=CMHD2003.PDF; ComponentLink2Description: Digi-Key Listing; ComponentLink2URL: https://www.digikey.com/product-detail/en/central-semiconductor-corp/CMHD2003-TR/CMHD2003-CT-ND/5324446; Junction Operating Temperature: -65C ~ 150C; Price: 0.52; Device Package: SOD-123; Voltage DC Reverse (Vr): 250V; Current Rectified: 200mA
footprint SOD-123
pins: 1, 2

## CMHD3595 TR
designator D?
DIODE GEN PURP 150V 150MA SOD123; Manufacturer: Central Semiconductor Corp; Type: Standard; Current Reverse Leakage @ Vr: 1nA @ 125V; Reverse Recovery Time (trr): 3us; Voltage Forward (Vf): 1V @ 200mA; Part Number: CMHD3595 TR; PartId: 29438; Supplier 1: Digi-Key; Supplier Part Number 1: CMHD3595 CT-ND; ComponentLink1Description: Datasheet; ComponentLink1URL: https://www.centralsemi.com/get_document.php?cmp=1&mergetype=pd&mergepath=pd&pdf_id=CMHD3595.PDF; ComponentLink2Description: Digi-Key Listing; ComponentLink2URL: https://www.digikey.com/product-detail/en/central-semiconductor-corp/CMHD3595-TR/CMHD3595-CT-ND/4806988; Junction Operating Temperature: -65C ~ 150C; Price: 0.72; Device Package: SOD-123; Voltage DC Reverse (Vr): 150V; Current Rectified: 150mA
footprint SOD-123
pins: 1, 2

## CMHD4150 TR
designator D?
DIODE GEN PURP 50V 250MA SOD123; Manufacturer: Central Semiconductor Corp; Type: Standard; Current Reverse Leakage @ Vr: 100nA @ 50V; Reverse Recovery Time (trr): 4ns; Voltage Forward (Vf): 1V @ 200mA; Part Number: CMHD4150 TR; PartId: 29410; Supplier 1: Digi-Key; Supplier Part Number 1: CMHD4150 CT-ND; ComponentLink1Description: Datasheet; ComponentLink1URL: https://www.centralsemi.com/get_document.php?cmp=1&mergetype=pd&mergepath=pd&pdf_id=CMHD4150.PDF; ComponentLink2Description: Digi-Key Listing; ComponentLink2URL: https://www.digikey.com/product-detail/en/central-semiconductor-corp/CMHD4150-TR/CMHD4150-CT-ND/5324447; Junction Operating Temperature: -65C ~ 150C; Price: 0.45; Device Package: SOD-123; Voltage DC Reverse (Vr): 50V; Current Rectified: 250mA
footprint SOD-123
pins: 1, 2

## CMHD4448 TR
designator D?
DIODE GEN PURP 75V 250MA SOD123; Manufacturer: Central Semiconductor Corp; Type: Standard; Current Reverse Leakage @ Vr: 25nA @ 20V; Reverse Recovery Time (trr): 4ns; Voltage Forward (Vf): 1V @ 100mA; Part Number: CMHD4448 TR; PartId: 29433; Supplier 1: Digi-Key; Supplier Part Number 1: CMHD4448 CT-ND; ComponentLink1Description: Datasheet; ComponentLink1URL: https://www.centralsemi.com/get_document.php?cmp=1&mergetype=pd&mergepath=pd&pdf_id=CMHD4448.PDF; ComponentLink2Description: Digi-Key Listing; ComponentLink2URL: https://www.digikey.com/product-detail/en/central-semiconductor-corp/CMHD4448-TR/CMHD4448-CT-ND/5324448; Junction Operating Temperature: -65C ~ 150C; Price: 0.74; Device Package: SOD-123; Voltage DC Reverse (Vr): 75V; Current Rectified: 250mA
footprint SOD-123
pins: 1, 2

## CMHSH5-4 TR
designator D?
DIODE SCHOTTKY 40V 500MA SOD123; Manufacturer: Central Semiconductor Corp; Current Reverse Leakage @ Vr: 20uA @ 40V; Voltage Forward (Vf): 620mV @ 1A; Part Number: CMHSH5-4 TR; PartId: 29402; Supplier 1: Digi-Key; Supplier Part Number 1: CMHSH5-4 CT-ND; ComponentLink1Description: Datasheet; ComponentLink1URL: https://www.centralsemi.com/get_document.php?cmp=1&mergetype=pd&mergepath=pd&pdf_id=CMHSH5-4.PDF; ComponentLink2Description: Digi-Key Listing; ComponentLink2URL: https://www.digikey.com/product-detail/en/central-semiconductor-corp/CMHSH5-4-TR/CMHSH5-4-CT-ND/4806989; Junction Operating Temperature: -65C ~ 125C; Price: 0.46; Type: Schottky; Device Package: SOD-123; Voltage DC Reverse (Vr): 40V; Current Rectified: 500mA
footprint SOD-123
pins: 1, 2

## CMHSH-3 TR
designator D?
DIODE SCHOTTKY 30V 200MA SOD123; Manufacturer: Central Semiconductor Corp; Current Reverse Leakage @ Vr: 2uA @ 25V; Reverse Recovery Time (trr): 7ns; Voltage Forward (Vf): 1V @ 100mA; Part Number: CMHSH-3 TR; PartId: 29415; Supplier 1: Digi-Key; Supplier Part Number 1: CMHSH-3 CT-ND; ComponentLink1Description: Datasheet; ComponentLink1URL: https://www.centralsemi.com/get_document.php?cmp=1&mergetype=pd&mergepath=pd&pdf_id=CMHSH-3.PDF; ComponentLink2Description: Digi-Key Listing; ComponentLink2URL: https://www.digikey.com/product-detail/en/central-semiconductor-corp/CMHSH-3-TR/CMHSH-3-CT-ND/5324449; Junction Operating Temperature: -65C ~ 150C; Price: 0.52; Type: Schottky; Device Package: SOD-123; Voltage DC Reverse (Vr): 30V; Current Rectified: 200mA
footprint SOD-123
pins: 1, 2

## CMMR1-02 TR
designator D?
DIODE GEN PURP 200V 1A SOD123F; Manufacturer: Central Semiconductor Corp; Type: Standard; Current Reverse Leakage @ Vr: 10uA @ 200V; Voltage Forward (Vf): 1.1V @ 1A; Part Number: CMMR1-02 TR; PartId: 29320; Supplier 1: Digi-Key; Supplier Part Number 1: CMMR1-02 CT-ND; ComponentLink1Description: Datasheet; ComponentLink1URL: https://www.centralsemi.com/get_document.php?cmp=1&mergetype=pd&mergepath=pd&pdf_id=CMMR1_SERIES.PDF; ComponentLink2Description: Digi-Key Listing; ComponentLink2URL: https://www.digikey.com/product-detail/en/central-semiconductor-corp/CMMR1-02-TR/CMMR1-02-CT-ND/5324472; Junction Operating Temperature: -65C ~ 150C; Price: 1.01; Device Package: SOD-123F; Voltage DC Reverse (Vr): 200V; Current Rectified: 1A
footprint SOD123F
pins: 1, 2

## CMMR1-04 TR
designator D?
DIODE GEN PURP 400V 1A SOD123F; Manufacturer: Central Semiconductor Corp; Type: Standard; Current Reverse Leakage @ Vr: 10uA @ 400V; Voltage Forward (Vf): 1.1V @ 1A; Part Number: CMMR1-04 TR; PartId: 29250; Supplier 1: Digi-Key; Supplier Part Number 1: CMMR1-04 CT-ND; ComponentLink1Description: Datasheet; ComponentLink1URL: https://www.centralsemi.com/get_document.php?cmp=1&mergetype=pd&mergepath=pd&pdf_id=CMMR1_SERIES.PDF; ComponentLink2Description: Digi-Key Listing; ComponentLink2URL: https://www.digikey.com/product-detail/en/central-semiconductor-corp/CMMR1-04-TR/CMMR1-04-CT-ND/5324473; Junction Operating Temperature: -65C ~ 150C; Price: 0.51; Device Package: SOD-123F; Voltage DC Reverse (Vr): 400V; Current Rectified: 1A
footprint SOD123F
pins: 1, 2

## CMMR1-06 TR
designator D?
DIODE GEN PURP 600V 1A SOD123F; Manufacturer: Central Semiconductor Corp; Type: Standard; Current Reverse Leakage @ Vr: 10uA @ 600V; Voltage Forward (Vf): 1.1V @ 1A; Part Number: CMMR1-06 TR; PartId: 29237; Supplier 1: Digi-Key; Supplier Part Number 1: CMMR1-06 CT-ND; ComponentLink1Description: Datasheet; ComponentLink1URL: https://www.centralsemi.com/get_document.php?cmp=1&mergetype=pd&mergepath=pd&pdf_id=CMMR1_SERIES.PDF; ComponentLink2Description: Digi-Key Listing; ComponentLink2URL: https://www.digikey.com/product-detail/en/central-semiconductor-corp/CMMR1-06-TR/CMMR1-06-CT-ND/4807012; Junction Operating Temperature: -65C ~ 150C; Price: 0.62; Device Package: SOD-123F; Voltage DC Reverse (Vr): 600V; Current Rectified: 1A
footprint SOD123F
pins: 1, 2

## CMMR1-10 TR
designator D?
DIODE GEN PURP 1000V 1A SOD123F; Manufacturer: Central Semiconductor Corp; Type: Standard; Current Reverse Leakage @ Vr: 10uA @ 1000V; Voltage DC Reverse (Vr): 1000V (1kV); Voltage Forward (Vf): 1.1V @ 1A; Part Number: CMMR1-10 TR; PartId: 29316; Supplier 1: Digi-Key; Supplier Part Number 1: CMMR1-10 CT-ND; ComponentLink1Description: Datasheet; ComponentLink1URL: https://www.centralsemi.com/get_document.php?cmp=1&mergetype=pd&mergepath=pd&pdf_id=CMMR1_SERIES.PDF; ComponentLink2Description: Digi-Key Listing; ComponentLink2URL: https://www.digikey.com/product-detail/en/central-semiconductor-corp/CMMR1-10-TR/CMMR1-10-CT-ND/5211340; Junction Operating Temperature: -65C ~ 150C; Price: 0.65; Device Package: SOD-123F; Current Rectified: 1A
footprint SOD123F
pins: 1, 2

## CMMR1F-06 TR
designator D?
DIODE GEN PURP 600V 1A SOD123F; Manufacturer: Central Semiconductor Corp; Type: Standard; Current Reverse Leakage @ Vr: 1uA @ 600V; Reverse Recovery Time (trr): 250ns; Voltage Forward (Vf): 1.3V @ 1A; Part Number: CMMR1F-06 TR; PartId: 29318; Supplier 1: Digi-Key; Supplier Part Number 1: CMMR1F-06 CT-ND; ComponentLink1Description: Datasheet; ComponentLink1URL: https://www.centralsemi.com/get_document.php?cmp=1&mergetype=pd&mergepath=pd&pdf_id=CMMR1F-02_SERIES.PDF; ComponentLink2Description: Digi-Key Listing; ComponentLink2URL: https://www.digikey.com/product-detail/en/central-semiconductor-corp/CMMR1F-06-TR/CMMR1F-06-CT-ND/5324474; Junction Operating Temperature: -65C ~ 150C; Price: 0.92; Device Package: SOD-123F; Voltage DC Reverse (Vr): 600V; Current Rectified: 1A
footprint SOD123F
pins: 1, 2

## CMMR1S-02 TR
designator D?
DIODE GEN PURP 200V 1A SOD123F; Manufacturer: Central Semiconductor Corp; Type: Standard; Current Reverse Leakage @ Vr: 10uA @ 200V; Reverse Recovery Time (trr): 35ns; Voltage Forward (Vf): 950mV @ 1A; Part Number: CMMR1S-02 TR; PartId: 29236; Supplier 1: Digi-Key; Supplier Part Number 1: CMMR1S-02 CT-ND; ComponentLink1Description: Datasheet; ComponentLink1URL: https://www.centralsemi.com/get_document.php?cmp=1&mergetype=pd&mergepath=pd&pdf_id=CMMR1S-02.PDF; ComponentLink2Description: Digi-Key Listing; ComponentLink2URL: https://www.digikey.com/product-detail/en/central-semiconductor-corp/CMMR1S-02-TR/CMMR1S-02-CT-ND/4807013; Junction Operating Temperature: -65C ~ 150C; Price: 0.62; Device Package: SOD-123F; Voltage DC Reverse (Vr): 200V; Current Rectified: 1A
footprint SOD123F
pins: 1, 2

## CMMR1U-02 TR
designator D?
DIODE GEN PURP 200V 1A SOD123F; Manufacturer: Central Semiconductor Corp; Type: Standard; Current Reverse Leakage @ Vr: 1uA @ 200V; Reverse Recovery Time (trr): 50ns; Voltage Forward (Vf): 1.7V @ 1A; Part Number: CMMR1U-02 TR; PartId: 29178; Supplier 1: Digi-Key; Supplier Part Number 1: CMMR1U-02 CT-ND; ComponentLink1Description: Datasheet; ComponentLink1URL: https://www.centralsemi.com/get_document.php?cmp=1&mergetype=pd&mergepath=pd&pdf_id=CMMR1U_SERIES.PDF; ComponentLink2Description: Digi-Key Listing; ComponentLink2URL: https://www.digikey.com/product-detail/en/central-semiconductor-corp/CMMR1U-02-TR/CMMR1U-02-CT-ND/4807014; Junction Operating Temperature: -65C ~ 150C; Price: 0.83; Device Package: SOD-123F; Voltage DC Reverse (Vr): 200V; Current Rectified: 1A
footprint SOD123F
pins: 1, 2

## CMMR1U-04 TR
designator D?
DIODE GEN PURP 400V 1A SOD123F; Manufacturer: Central Semiconductor Corp; Type: Standard; Current Reverse Leakage @ Vr: 1uA @ 400V; Reverse Recovery Time (trr): 50ns; Voltage Forward (Vf): 1.4V @ 1A; Part Number: CMMR1U-04 TR; PartId: 29288; Supplier 1: Digi-Key; Supplier Part Number 1: CMMR1U-04 CT-ND; ComponentLink1Description: Datasheet; ComponentLink1URL: https://www.centralsemi.com/get_document.php?cmp=1&mergetype=pd&mergepath=pd&pdf_id=CMMR1U_SERIES.PDF; ComponentLink2Description: Digi-Key Listing; ComponentLink2URL: https://www.digikey.com/product-detail/en/central-semiconductor-corp/CMMR1U-04-TR/CMMR1U-04-CT-ND/5325384; Junction Operating Temperature: -65C ~ 150C; Price: 0.46; Device Package: SOD-123F; Voltage DC Reverse (Vr): 400V; Current Rectified: 1A
footprint SOD123F
pins: 1, 2

## CMMR1U-06 TR
designator D?
DIODE GEN PURP 600V 1A SOD123F; Manufacturer: Central Semiconductor Corp; Type: Standard; Current Reverse Leakage @ Vr: 1uA @ 600V; Reverse Recovery Time (trr): 100ns; Voltage Forward (Vf): 1.7V @ 1A; Part Number: CMMR1U-06 TR; PartId: 29224; Supplier 1: Digi-Key; Supplier Part Number 1: CMMR1U-06 CT-ND; ComponentLink1Description: Datasheet; ComponentLink1URL: https://www.centralsemi.com/get_document.php?cmp=1&mergetype=pd&mergepath=pd&pdf_id=CMMR1U_SERIES.PDF; ComponentLink2Description: Digi-Key Listing; ComponentLink2URL: https://www.digikey.com/product-detail/en/central-semiconductor-corp/CMMR1U-06-TR/CMMR1U-06-CT-ND/4807015; Junction Operating Temperature: -65C ~ 150C; Price: 0.76; Device Package: SOD-123F; Voltage DC Reverse (Vr): 600V; Current Rectified: 1A
footprint SOD123F
pins: 1, 2

## CMMR1U-08 TR
designator D?
DIODE GEN PURP 800V 1A SOD123F; Manufacturer: Central Semiconductor Corp; Type: Standard; Current Reverse Leakage @ Vr: 1uA @ 800V; Reverse Recovery Time (trr): 100ns; Voltage Forward (Vf): 1.7V @ 1A; Part Number: CMMR1U-08 TR; PartId: 29317; Supplier 1: Digi-Key; Supplier Part Number 1: CMMR1U-08 CT-ND; ComponentLink1Description: Datasheet; ComponentLink1URL: https://www.centralsemi.com/get_document.php?cmp=1&mergetype=pd&mergepath=pd&pdf_id=CMMR1U_SERIES.PDF; ComponentLink2Description: Digi-Key Listing; ComponentLink2URL: https://www.digikey.com/product-detail/en/central-semiconductor-corp/CMMR1U-08-TR/CMMR1U-08-CT-ND/5018686; Junction Operating Temperature: -65C ~ 150C; Price: 0.84; Device Package: SOD-123F; Voltage DC Reverse (Vr): 800V; Current Rectified: 1A
footprint SOD123F
pins: 1, 2

## CMMSH1-20G TR
designator D?
DIODE SCHOTTKY 20V 1A SOD123F; Manufacturer: Central Semiconductor Corp; Current Reverse Leakage @ Vr: 500uA @ 100V; Voltage Forward (Vf): 450mV @ 1A; Part Number: CMMSH1-20G TR; PartId: 29251; Supplier 1: Digi-Key; Supplier Part Number 1: CMMSH1-20G CT-ND; ComponentLink1Description: Datasheet; ComponentLink1URL: https://www.centralsemi.com/get_document.php?cmp=1&mergetype=pd&mergepath=pd&pdf_id=CMMSH1-40.PDF; ComponentLink2Description: Digi-Key Listing; ComponentLink2URL: https://www.digikey.com/product-detail/en/central-semiconductor-corp/CMMSH1-20G-TR/CMMSH1-20G-CT-ND/5324476; Price: 0.65; Type: Schottky; Device Package: SOD-123F; Voltage DC Reverse (Vr): 20V; Current Rectified: 1A
footprint SOD123F
pins: 1, 2

## CMMSH1-40G TR
designator D?
DIODE SCHOTTKY 40V 1A SOD123F; Manufacturer: Central Semiconductor Corp; Current Reverse Leakage @ Vr: 500uA @ 40V; Voltage Forward (Vf): 550mV @ 1A; Part Number: CMMSH1-40G TR; PartId: 29225; Supplier 1: Digi-Key; Supplier Part Number 1: CMMSH1-40G CT-ND; ComponentLink1Description: Datasheet; ComponentLink1URL: https://www.centralsemi.com/get_document.php?cmp=1&mergetype=pd&mergepath=pd&pdf_id=CMMSH1-40.PDF; ComponentLink2Description: Digi-Key Listing; ComponentLink2URL: https://www.digikey.com/product-detail/en/central-semiconductor-corp/CMMSH1-40G-TR/CMMSH1-40G-CT-ND/4807016; Junction Operating Temperature: -65C ~ 125C; Price: 0.99; Type: Schottky; Device Package: SOD-123F; Voltage DC Reverse (Vr): 40V; Current Rectified: 1A
footprint SOD123F
pins: 1, 2

## CMMSH1-100G TR
designator D?
DIODE SCHOTTKY 100V 1A SOD123F; Manufacturer: Central Semiconductor Corp; Current Reverse Leakage @ Vr: 500uA @ 100V; Voltage Forward (Vf): 850mV @ 1A; Part Number: CMMSH1-100G TR; PartId: 29321; Supplier 1: Digi-Key; Supplier Part Number 1: CMMSH1-100G CT-ND; ComponentLink1Description: Datasheet; ComponentLink1URL: https://www.centralsemi.com/get_document.php?cmp=1&mergetype=pd&mergepath=pd&pdf_id=CMMSH1-40.PDF; ComponentLink2Description: Digi-Key Listing; ComponentLink2URL: https://www.digikey.com/product-detail/en/central-semiconductor-corp/CMMSH1-100G-TR/CMMSH1-100G-CT-ND/5324475; Junction Operating Temperature: -65C ~ 125C; Price: 1.34; Type: Schottky; Device Package: SOD-123F; Voltage DC Reverse (Vr): 100V; Current Rectified: 1A
footprint SOD123F
pins: 1, 2

## CMR3-02 TR13
designator D?
DIODE GEN PURP 200V 3A SMC; Manufacturer: Central Semiconductor Corp; Type: Standard; Current Reverse Leakage @ Vr: 5uA @ 200V; Voltage Forward (Vf): 1.2V @ 3A; Part Number: CMR3-02 TR13; PartId: 27866; Supplier 1: Digi-Key; Supplier Part Number 1: CMR3-02 TR13CT-ND; ComponentLink1Description: Datasheet; ComponentLink1URL: https://www.centralsemi.com/get_document.php?cmp=1&mergetype=pd&mergepath=pd&pdf_id=CMR3-10.PDF; ComponentLink2Description: Digi-Key Listing; ComponentLink2URL: https://www.digikey.com/product-detail/en/central-semiconductor-corp/CMR3-02-TR13/CMR3-02-TR13CT-ND/5324529; Junction Operating Temperature: -65C ~ 175C; Price: 0.84; Device Package: DO-214AB, SMC; Voltage DC Reverse (Vr): 200V; Current Rectified: 3A
footprint ST DO214AB SMC
pins: 1, 2

## CMR3-04 TR13
designator D?
DIODE GEN PURP 400V 3A SMC; Manufacturer: Central Semiconductor Corp; Type: Standard; Current Reverse Leakage @ Vr: 5uA @ 400V; Voltage Forward (Vf): 1.2V @ 3A; Part Number: CMR3-04 TR13; PartId: 27867; Supplier 1: Digi-Key; Supplier Part Number 1: CMR3-04 TR13CT-ND; ComponentLink1Description: Datasheet; ComponentLink1URL: https://www.centralsemi.com/get_document.php?cmp=1&mergetype=pd&mergepath=pd&pdf_id=CMR3-10.PDF; ComponentLink2Description: Digi-Key Listing; ComponentLink2URL: https://www.digikey.com/product-detail/en/central-semiconductor-corp/CMR3-04-TR13/CMR3-04-TR13CT-ND/5324530; Junction Operating Temperature: -65C ~ 175C; Price: 0.84; Device Package: DO-214AB, SMC; Voltage DC Reverse (Vr): 400V; Current Rectified: 3A
footprint ST DO214AB SMC
pins: 1, 2

## CMR3-06 TR13
designator D?
DIODE GEN PURP 600V 3A SMC; Manufacturer: Central Semiconductor Corp; Type: Standard; Current Reverse Leakage @ Vr: 5uA @ 600V; Voltage Forward (Vf): 1.2V @ 3A; Part Number: CMR3-06 TR13; PartId: 27876; Supplier 1: Digi-Key; Supplier Part Number 1: CMR3-06 CT-ND; ComponentLink1Description: Datasheet; ComponentLink1URL: https://www.centralsemi.com/get_document.php?cmp=1&mergetype=pd&mergepath=pd&pdf_id=CMR3-10.PDF; ComponentLink2Description: Digi-Key Listing; ComponentLink2URL: https://www.digikey.com/product-detail/en/central-semiconductor-corp/CMR3-06-TR13/CMR3-06-CT-ND/4807103; Junction Operating Temperature: -65C ~ 175C; Price: 1.01; Device Package: DO-214AB, SMC; Voltage DC Reverse (Vr): 600V; Current Rectified: 3A
footprint ST DO214AB SMC
pins: 1, 2

## CMR3-10 TR13
designator D?
DIODE GEN PURP 1000V 3A SMC; Manufacturer: Central Semiconductor Corp; Type: Standard; Current Reverse Leakage @ Vr: 5uA @ 1000V; Voltage DC Reverse (Vr): 1000V (1kV); Voltage Forward (Vf): 1.2V @ 3A; Part Number: CMR3-10 TR13; PartId: 27800; Supplier 1: Digi-Key; Supplier Part Number 1: CMR3-10 TR13CT-ND; ComponentLink1Description: Datasheet; ComponentLink1URL: https://www.centralsemi.com/get_document.php?cmp=1&mergetype=pd&mergepath=pd&pdf_id=CMR3-10.PDF; ComponentLink2Description: Digi-Key Listing; ComponentLink2URL: https://www.digikey.com/product-detail/en/central-semiconductor-corp/CMR3-10-TR13/CMR3-10-TR13CT-ND/5324531; Junction Operating Temperature: -65C ~ 175C; Price: 1.28; Device Package: DO-214AB, SMC; Current Rectified: 3A
footprint ST DO214AB SMC
pins: 1, 2

## CMR3U-01 TR13
designator D?
DIODE GEN PURP 100V 3A SMC; Manufacturer: Central Semiconductor Corp; Type: Standard; Current Reverse Leakage @ Vr: 5uA @ 100V; Reverse Recovery Time (trr): 50ns; Voltage Forward (Vf): 1V @ 3A; Part Number: CMR3U-01 TR13; PartId: 27880; Supplier 1: Digi-Key; Supplier Part Number 1: CMR3U-01 TR13CT-ND; ComponentLink1Description: Datasheet; ComponentLink1URL: https://www.centralsemi.com/get_document.php?cmp=1&mergetype=pd&mergepath=pd&pdf_id=CMR3U-01.PDF; ComponentLink2Description: Digi-Key Listing; ComponentLink2URL: https://www.digikey.com/product-detail/en/central-semiconductor-corp/CMR3U-01-TR13/CMR3U-01-TR13CT-ND/5324532; Junction Operating Temperature: -65C ~ 175C; Price: 1.11; Device Package: DO-214AB, SMC; Voltage DC Reverse (Vr): 100V; Current Rectified: 3A
footprint ST DO214AB SMC
pins: 1, 2

## CMR3U-02 TR13
designator D?
DIODE GEN PURP 200V 3A SMC; Manufacturer: Central Semiconductor Corp; Type: Standard; Current Reverse Leakage @ Vr: 5uA @ 200V; Reverse Recovery Time (trr): 50ns; Voltage Forward (Vf): 1V @ 3A; Part Number: CMR3U-02 TR13; PartId: 27886; Supplier 1: Digi-Key; Supplier Part Number 1: CMR3U-02 TR13CT-ND; ComponentLink1Description: Datasheet; ComponentLink1URL: https://www.centralsemi.com/get_document.php?cmp=1&mergetype=pd&mergepath=pd&pdf_id=CMR3U-01.PDF; ComponentLink2Description: Digi-Key Listing; ComponentLink2URL: https://www.digikey.com/product-detail/en/central-semiconductor-corp/CMR3U-02-TR13/CMR3U-02-TR13CT-ND/5324533; Junction Operating Temperature: -65C ~ 175C; Price: 1.69; Device Package: DO-214AB, SMC; Voltage DC Reverse (Vr): 200V; Current Rectified: 3A
footprint ST DO214AB SMC
pins: 1, 2

## CMR3U-02M TR13
designator D?
DIODE GEN PURP 200V 3A SMC; Manufacturer: Central Semiconductor Corp; Type: Standard; Current Reverse Leakage @ Vr: 5uA @ 200V; Reverse Recovery Time (trr): 50ns; Voltage Forward (Vf): 1V @ 3A; Part Number: CMR3U-02M TR13; PartId: 27889; Supplier 1: Digi-Key; Supplier Part Number 1: CMR3U-02M TR13CT-ND; ComponentLink1Description: Datasheet; ComponentLink1URL: https://www.centralsemi.com/get_document.php?cmp=1&mergetype=pd&mergepath=pd&pdf_id=CMR3U-01M-10M.PDF; ComponentLink2Description: Digi-Key Listing; ComponentLink2URL: https://www.digikey.com/product-detail/en/central-semiconductor-corp/CMR3U-02M-TR13/CMR3U-02M-TR13CT-ND/5324534; Junction Operating Temperature: -65C ~ 175C; Price: 2.2; Device Package: DO-214AB, SMC; Voltage DC Reverse (Vr): 200V; Current Rectified: 3A
footprint ST DO214AB SMC
pins: 1, 2

## CMR3U-04 TR13
designator D?
DIODE GEN PURP 400V 3A SMC; Manufacturer: Central Semiconductor Corp; Type: Standard; Current Reverse Leakage @ Vr: 5uA @ 400V; Reverse Recovery Time (trr): 50ns; Voltage Forward (Vf): 1.25V @ 3A; Part Number: CMR3U-04 TR13; PartId: 27882; Supplier 1: Digi-Key; Supplier Part Number 1: CMR3U-04 CT-ND; ComponentLink1Description: Datasheet; ComponentLink1URL: https://www.centralsemi.com/get_document.php?cmp=1&mergetype=pd&mergepath=pd&pdf_id=CMR3U-01.PDF; ComponentLink2Description: Digi-Key Listing; ComponentLink2URL: https://www.digikey.com/product-detail/en/central-semiconductor-corp/CMR3U-04-TR13/CMR3U-04-CT-ND/4807104; Junction Operating Temperature: -65C ~ 175C; Price: 1.56; Device Package: DO-214AB, SMC; Voltage DC Reverse (Vr): 400V; Current Rectified: 3A
footprint ST DO214AB SMC
pins: 1, 2